# EAGLE library part MOMO-EDGE-6F (library components)
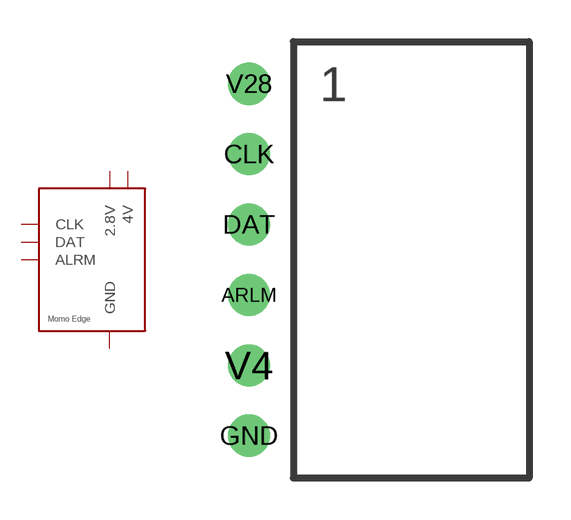
[diagram p22: symbol with the pads of MOMO-EDGE-8F; footprint MOMO-EDGE-8F]

Designator prefix -

## MOMO-EDGE-6F (DIGIKEY-PN: S5442-ND)  [MOMO-EDGE-8F]
ARLM  ALRM
CLK  CLK
DAT  DAT
GND  GND  pwr
V4  4V  pwr
V28  2.8V  pwr

## Footprint MOMO-EDGE-8F (pad centres in mm)
drill 1.016: ARLM 0,2.54; CLK 0,7.62; DAT 0,5.08; GND 0,-2.54; V4 0,0; V28 0,10.16